# EAGLE library part *555_ALT3 (library ic)
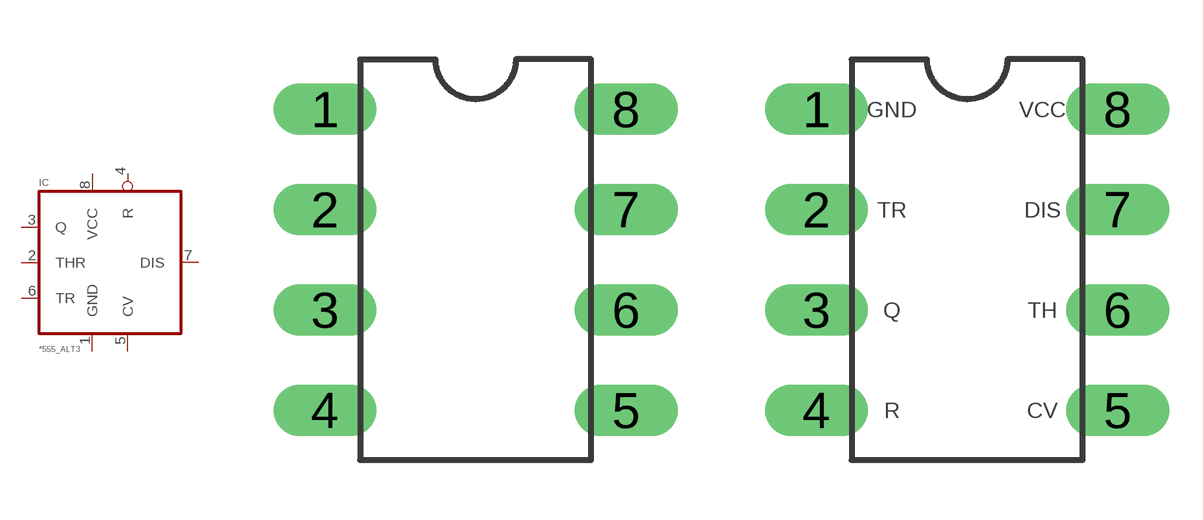
[diagram p54: symbol with the pads of DIL08; footprints DIL08, 555-DIL]

Designator prefix IC

## 555_ALT3  [DIL08]
1  GND  pwr
2  THR  in
3  Q  out
4  R  in
5  CV  in
6  TR  in
7  DIS  pas
8  VCC  pwr

## 555_ALT3-555  [555-DIL]
Pads as for DIL08

## Footprint DIL08 (pad centres in mm)
Dual In Line Package
drill 0.8 pad 1.27 long: 1 -3.81,3.81; 2 -3.81,1.27; 3 -3.81,-1.27; 4 -3.81,-3.81; 5 3.81,-3.81; 6 3.81,-1.27; 7 3.81,1.27; 8 3.81,3.81

## Footprint 555-DIL (pad centres in mm)
drill 0.8 pad 1.27 long: 1 -3.81,3.81; 2 -3.81,1.27; 3 -3.81,-1.27; 4 -3.81,-3.81; 5 3.81,-3.81; 6 3.81,-1.27; 7 3.81,1.27; 8 3.81,3.81